# Altium schematic symbol library tsl_Schlib.SchLib: 381 symbols (part 2 of 3)
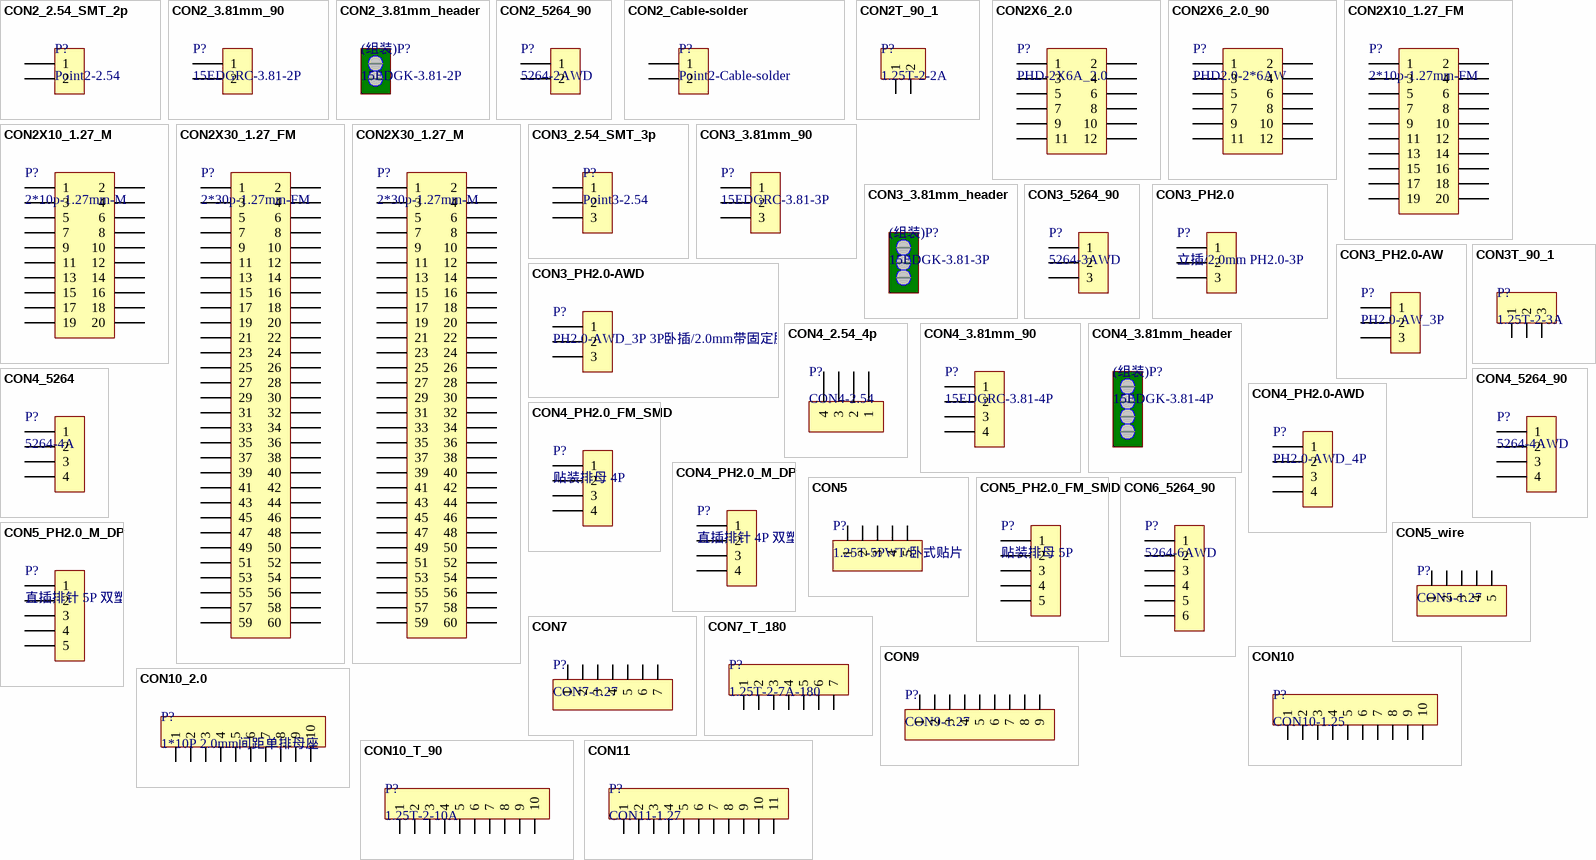
[diagram p11: symbols CON2_2.54_SMT_2p to CON11]

## CON5_wire
designator P?, comment CON5-1.27
线材; Part Number: RP02.08.000051; LatestRevisionDate: 09-Feb-2017; LatestRevisionNote: SCHlib build; Publisher: ChenYinaho; Manufacturer: *; Manufacturer Part Number: *; Value: CON5-1.27
footprint CON5-1.27-SMD
footprint PH_5PIN_1.5_90
pins: 1, 2, 3, 4, 5

## CON6_5264_90
designator P?, comment 5264-6AWD
5264弯针插座,间距2.5mm,6位; Part Number: NEW; LatestRevisionDate: 09-Feb-2017; LatestRevisionNote: SCHlib build; Publisher: ChenYinaho; Manufacturer: *; Manufacturer Part Number: *; Value: 5264-6AWD
footprint PH5264-6P_90
pins: 1, 2, 3, 4, 5, 6

## CON7
designator P?, comment CON7-1.27
直插插座; Part Number: RP02.07.000049; LatestRevisionDate: 09-Feb-2017; LatestRevisionNote: SCHlib build; Publisher: ChenYinaho; Manufacturer: *; Manufacturer Part Number: *; Value: CON7-1.27
footprint PH_7PIN_1.25_H (Footprint not found)
pins: 1, 2, 3, 4, 5, 6, 7

## CON7_T_180
designator P?, comment 1.25T-2-7A-180
立贴座 1.25/7p; Part Number: NEW; LatestRevisionDate: 09-Feb-2017; LatestRevisionNote: SCHlib build; Publisher: ChenYinaho; Manufacturer: *; Manufacturer Part Number: *; Value: 1.25T-2-7A-180
footprint PH_7PIN_1.25_T_180
pins: 1, 2, 3, 4, 5, 6, 7

## CON9
designator P?, comment CON9-1.27
LatestRevisionDate: 09-Feb-2017; LatestRevisionNote: SCHlib build; Publisher: ChenYinaho; Manufacturer: *; Manufacturer Part Number: *; Part Number: *; Value: CON9-1.27
footprint PH_9PIN_1.25_H (Footprint not found)
pins: 1, 2, 3, 4, 5, 6, 7, 8, 9

## CON10
designator P?, comment CON10-1.25
直插插座; Part Number: RP02.07.000116; LatestRevisionDate: 09-Feb-2017; LatestRevisionNote: SCHlib build; Publisher: ChenYinaho; Manufacturer: *; Manufacturer Part Number: *; Value: CON10-1.25
footprint PH_10PIN_1.25_H
pins: 1, 2, 3, 4, 5, 6, 7, 8, 9, 10

## CON10_2.0
designator P?, comment 1*10P 2.0mm间距单排母座
直插排针插座; Part Number: RP02.07.000118; LatestRevisionDate: 09-Feb-2017; LatestRevisionNote: SCHlib build; Publisher: ChenYinaho; Manufacturer: *; Manufacturer Part Number: *; Value: 1*10P 2.0mm间距单排母座
footprint 1*10p/2.0mm/RTL8711
pins: 1, 2, 3, 4, 5, 6, 7, 8, 9, 10

## CON10_T_90
designator P?, comment 1.25T-2-10A
卧贴座 1.25/10p; Part Number: NEW; LatestRevisionDate: 09-Feb-2017; LatestRevisionNote: SCHlib build; Publisher: ChenYinaho; Manufacturer: *; Manufacturer Part Number: *; Value: 1.25T-2-10A
footprint PH_10PIN_1.25_T_90 (Footprint not found)
pins: 1, 2, 3, 4, 5, 6, 7, 8, 9, 10

## CON11
designator P?, comment CON11-1.27
LatestRevisionDate: 09-Feb-2017; LatestRevisionNote: SCHlib build; Publisher: ChenYinaho; Manufacturer: *; Manufacturer Part Number: *; Part Number: *; Value: CON11-1.27
footprint PH_11PIN_1.25_H (Footprint not found)
pins: 1, 2, 3, 4, 5, 6, 7, 8, 9, 10, 11

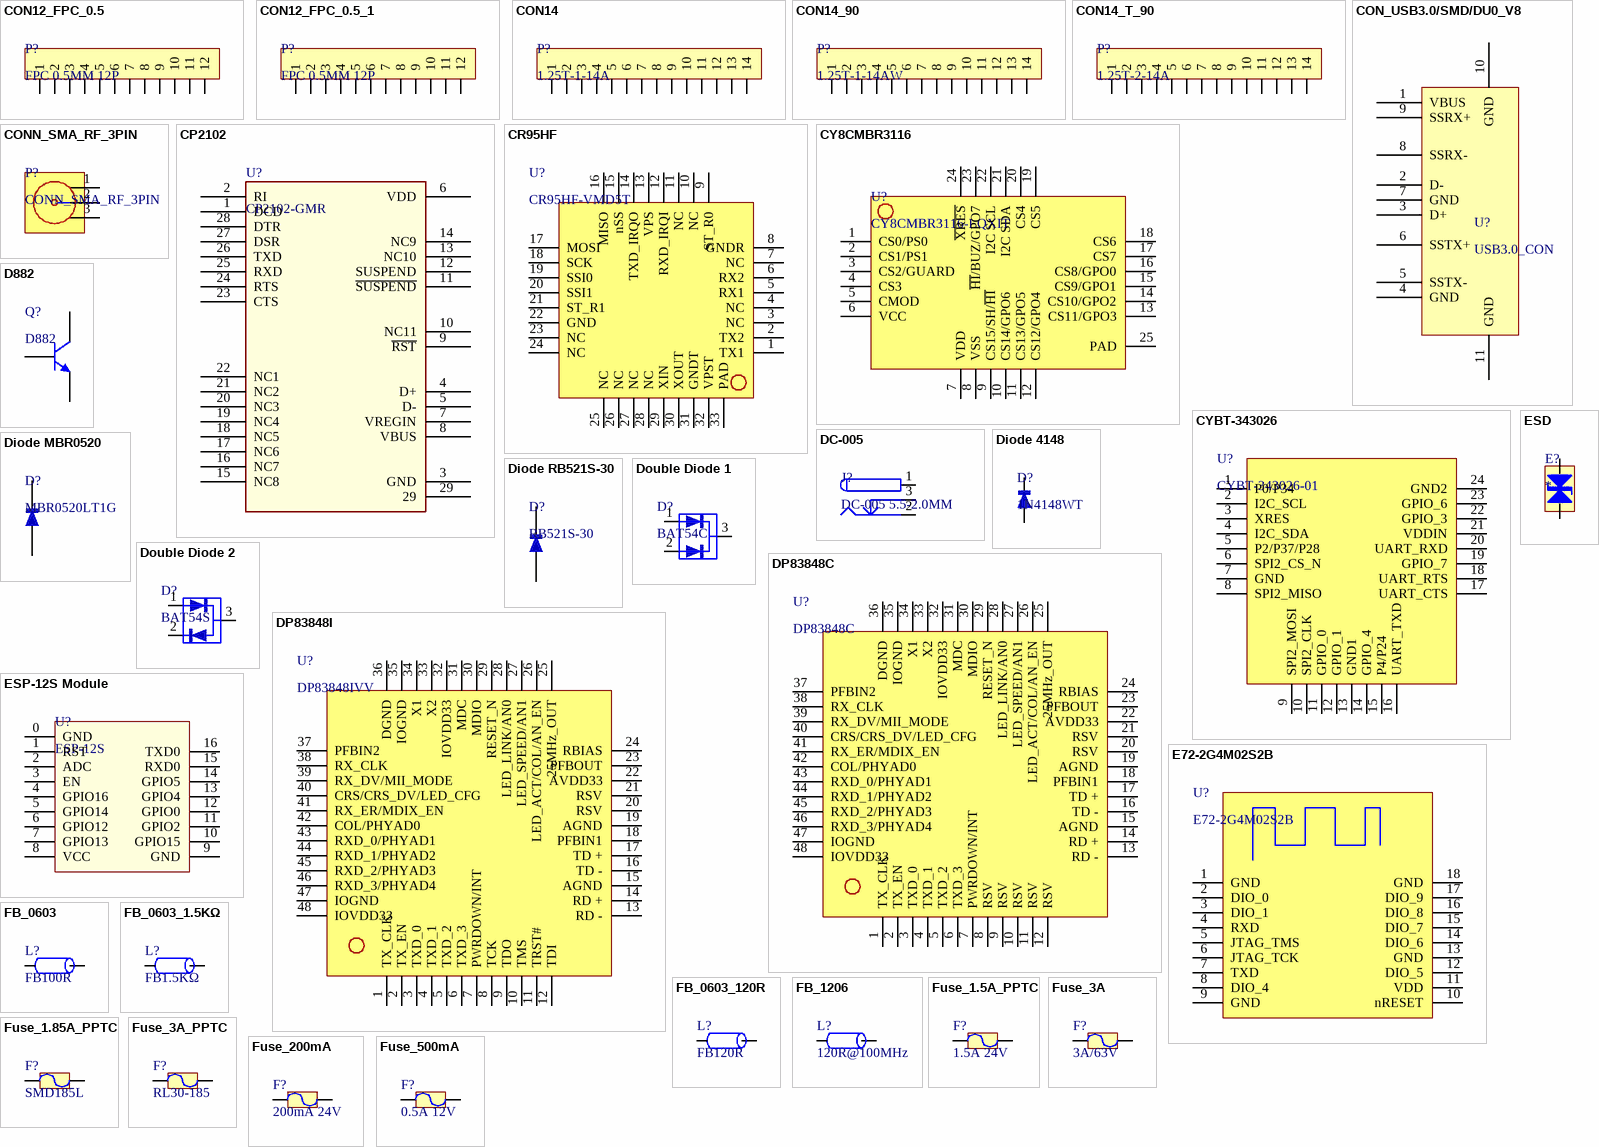
[diagram p4: symbols CON12_FPC_0.5 to Fuse_500mA]

## CON12_FPC_0.5
designator P?, comment FPC 0.5MM 12P
FPC连接器 0.5mm间距 12P H2.0mm 抽拉式 下接; Part Number: NEW; LatestRevisionDate: 09-Feb-2017; LatestRevisionNote: SCHlib build; Publisher: ChenYinaho; Manufacturer: *; Manufacturer Part Number: *; Value: FPC 0.5MM 12P
footprint FPC_0.5MM_12P (Footprint not found)
pins: 1, 2, 3, 4, 5, 6, 7, 8, 9, 10, 11, 12

## CON12_FPC_0.5_1
designator P?, comment FPC 0.5MM 12P
FPC连接器 0.5mm间距 12P H2.0mm 立贴式; Part Number: NEW; LatestRevisionDate: 09-Feb-2017; LatestRevisionNote: SCHlib build; Publisher: ChenYinaho; Manufacturer: *; Manufacturer Part Number: *; Value: FPC 0.5MM 12P
footprint FPC_0.5MM_12P_90 (Footprint not found)
pins: 1, 2, 3, 4, 5, 6, 7, 8, 9, 10, 11, 12

## CON14
designator P?, comment 1.25T-1-14A
直插插座 1.25/14p; Part Number: RP02.07.000142; LatestRevisionDate: 09-Feb-2017; LatestRevisionNote: SCHlib build; Publisher: ChenYinaho; Manufacturer: *; Manufacturer Part Number: *; Value: 1.25T-1-14A
footprint PH_14PIN_1.25_H (Footprint not found)
pins: 1, 2, 3, 4, 5, 6, 7, 8, 9, 10, 11, 12, 13, 14

## CON14_90
designator P?, comment 1.25T-1-14AW
直插90度弯座 1.25/14p; Part Number: RP02.07.000141; LatestRevisionDate: 09-Feb-2017; LatestRevisionNote: SCHlib build; Publisher: ChenYinaho; Manufacturer: *; Manufacturer Part Number: *; Value: 1.25T-1-14AW
footprint PH_14PIN_1.25_90
pins: 1, 2, 3, 4, 5, 6, 7, 8, 9, 10, 11, 12, 13, 14

## CON14_T_90
designator P?, comment 1.25T-2-14A
卧贴座 1.25/14p; Part Number: RP02.07.000145; LatestRevisionDate: 09-Feb-2017; LatestRevisionNote: SCHlib build; Publisher: ChenYinaho; Manufacturer: *; Manufacturer Part Number: *; Value: 1.25T-2-14A
footprint PH_14PIN_1.25_T_90 (Footprint not found)
pins: 1, 2, 3, 4, 5, 6, 7, 8, 9, 10, 11, 12, 13, 14

## CON_USB3.0/SMD/DU0_V8
designator U?, comment USB3.0_CON
USB3.0 CON; Part Number: NEW; LatestRevisionDate: 09-Feb-2017; LatestRevisionNote: SCHlib build; Publisher: Stone; PackageDescription: SMD; Value: USB3.0_CON
footprint TQFN-32_4x4x04P
pins: 1 VBUS, 2 D-, 3 D+, 4 GND, 5 SSTX-, 6 SSTX+, 7 GND, 8 SSRX-, 9 SSRX+, 10 GND, 11 GND

## CONN_SMA_RF_3PIN
designator P?
贴片天线座; Part Number: RP02.07.000078; LatestRevisionDate: 09-Feb-2017; LatestRevisionNote: SCHlib build; Publisher: ChenYinaho; Manufacturer: *; Manufacturer Part Number: *; Value: CONN_SMA_RF_3PIN
footprint PH_RF_2.5X2.5 (Footprint not found)
pins: 1, 2, 3

## CP2102
designator U?, comment CP2102-GMR
USB 桥接器; Manufacturer: SILICON LABS(芯科); Part Number: NEW; LatestRevisionDate: 09-Feb-2017; LatestRevisionNote: SCHlib build; Publisher: ChenYinaho; PackageDescription: QFN-28_5x5x05P; Manufacturer Part Number: CP2102-GMR; Value: CP2102-GMR
footprint QFN-28_5x5x05P (Footprint not found)
pins: 1 DCD, 2 RI, 3 GND, 4 D+, 5 D-, 6 VDD, 7 VREGIN, 8 VBUS, 9 ~{RST}, 10 NC11, 11 ~{SUSPEND}, 12 SUSPEND, 13 NC10, 14 NC9, 15 NC8, 16 NC7, 17 NC6, 18 NC5, 19 NC4, 20 NC3, 21 NC2, 22 NC1, 23 CTS, 24 RTS, 25 RXD, 26 TXD, 27 DSR, 28 DTR, 29

## CR95HF
designator U?, comment CR95HF-VMD5T
NFC芯片; Part Number: RP02.05.000041; LatestRevisionDate: 09-Feb-2017; LatestRevisionNote: SCHlib build; Publisher: ChenYinaho; Manufacturer: *; Manufacturer Part Number: CR95HF-VMD5T; Value: CR95HF-VMD5T
footprint QFN32 (Footprint not found)
pins: 1 TX1, 2 TX2, 3 NC, 4 NC, 5 RX1, 6 RX2, 7 NC, 8 GNDR, 9 ST_R0, 10 NC, 11 NC, 12 RXD_IRQI, 13 VPS, 14 TXD_IRQO, 15 nSS, 16 MISO, 17 MOSI, 18 SCK, 19 SSI0, 20 SSI1, 21 ST_R1, 22 GND, 23 NC, 24 NC, 25 NC, 26 NC, 27 NC, 28 NC, 29 XIN, 30 XOUT, 31 GNDT, 32 VPST, 33 PAD

## CY8CMBR3116
designator U?, comment CY8CMBR3116-LQXIT
16键触摸控制器IC; Manufacturer: CYPRESS; Part Number: NEW; LatestRevisionDate: 09-Feb-2017; LatestRevisionNote: SCHlib build; Publisher: ChenYinaho; Manufacturer Part Number: CY8CMBR3116-LQXIT; Value: CY8CMBR3116-LQXIT
footprint QFN24 (Footprint not found)
pins: 1 CS0/PS0, 2 CS1/PS1, 3 CS2/GUARD, 4 CS3, 5 CMOD, 6 VCC, 7 VDD, 8 VSS, 9 CS15/SH/~{HI}, 10 CS14/GPO6, 11 CS13/GPO5, 12 CS12/GPO4, 13 CS11/GPO3, 14 CS10/GPO2, 15 CS9/GPO1, 16 CS8/GPO0, 17 CS7, 18 CS6, 19 CS5, 20 CS4, 21 I2C SDA, 22 I2C SCL, 23 ~{HI}/BUZ/GPO7, 24 ~{XRES}, 25 PAD

## CYBT-343026
designator U?, comment CYBT-343026-01
蓝牙模块; Manufacturer: Cypress; Part Number: NEW; LatestRevisionDate: 09-Feb-2017; LatestRevisionNote: SCHlib build; Publisher: ChenYinaho; Manufacturer Part Number: CYBT-343026; Value: CYBT-343026-01
footprint BLE-QFN24-343026
pins: 1 P0/P34, 2 I2C_SCL, 3 XRES, 4 I2C_SDA, 5 P2/P37/P28, 6 SPI2_CS_N, 7 GND, 8 SPI2_MISO, 9 SPI2_MOSI, 10 SPI2_CLK, 11 GPIO_0, 12 GPIO_1, 13 GND1, 14 GPIO_4, 15 P4/P24, 16 UART_TXD, 17 UART_CTS, 18 UART_RTS, 19 GPIO_7, 20 UART_RXD, 21 VDDIN, 22 GPIO_3, 23 GPIO_6, 24 GND2

## D882
designator Q?
贴片三极管NPN; Manufacturer: CJ江苏长电; Part Number: NEW; LatestRevisionDate: 09-Feb-2017; LatestRevisionNote: SCHlib build; Publisher: ChenYinaho; PackageDescription: SOT-89-3L; Manufacturer Part Number: D882; Value: D882
footprint SOT-89
pins: 1 B, 2 C, 3 E

## DC-005
designator J?, comment DC-005 5.5-2.0MM
DC电源插座; Part Number: NEW; LatestRevisionDate: 09-Feb-2017; LatestRevisionNote: SCHlib build; Publisher: ChenYinaho; Manufacturer Part Number: DC-005 5.5-2.0MM; Manufacturer: *; Value: DC-005 5.5-2.0MM
footprint KLD-0202-1 (DC Power Jack, 2.5mm, KLD Series, PCB Mount)
pins: 1 (power), 2 (power), 3 (power)

## Diode 4148
designator D?, comment 1N4148WT
贴片二极管; Part Number: RP02.06.000021; LatestRevisionDate: 09-Feb-2017; LatestRevisionNote: SCHlib build; Publisher: ChenYinaho; Manufacturer Part Number: 1N4148WT; Manufacturer: *; Value: 1N4148WT
footprint SOD-523
pins: 1, 2

## Diode MBR0520
designator D?, comment MBR0520LT1G
贴片肖特基二极管; Manufacturer: ON; Part Number: RP02.06.000083; LatestRevisionDate: 09-Feb-2017; LatestRevisionNote: SCHlib build; Publisher: ChenYinaho; Manufacturer Part Number: MBR0520LT1G; Value: MBR0520LT1G
footprint SOD-123
pins: 1, 2

## Diode RB521S-30
designator D?, comment RB521S-30
贴片肖特基二极管; Part Number: RP02.06.000082; LatestRevisionDate: 09-Feb-2017; LatestRevisionNote: SCHlib build; Publisher: ChenYinaho; Manufacturer Part Number: RB521S-30; Manufacturer: *; Value: RB521S-30
footprint SOD-523
pins: 1, 2

## Double Diode 1
designator D?, comment BAT54C
贴片双二极管; Part Number: RP02.06.000036; LatestRevisionDate: 09-Feb-2017; LatestRevisionNote: SCHlib build; Publisher: ChenYinaho; Manufacturer: *; Manufacturer Part Number: BAT54C; Value: BAT54C
footprint SOT-23
pins: 1 A1, 2 K2, 3 K1

## Double Diode 2
designator D?, comment BAT54S
贴片双二极管; Part Number: RP02.06.000033; LatestRevisionDate: 09-Feb-2017; LatestRevisionNote: SCHlib build; Publisher: ChenYinaho; Manufacturer: *; Manufacturer Part Number: BAT54S; Value: BAT54S
footprint SOT-23
pins: 1 A1, 2 K2, 3 K1

## DP83848C
designator U?
以太网物理层收发器; Manufacturer: TI; Part Number: RP02.05.000087; LatestRevisionDate: 09-Feb-2017; LatestRevisionNote: SCHlib build; Publisher: ChenYinaho; Manufacturer Part Number: DP83848C; Value: DP83848C
footprint PQFP48 (Footprint not found)
pins: 1 TX_CLK, 2 TX_EN, 3 TXD_0, 4 TXD_1, 5 TXD_2, 6 TXD_3, 7 PWRDOWN/INT, 8 RSV, 9 RSV, 10 RSV, 11 RSV, 12 RSV, 13 RD -, 14 RD +, 15 AGND, 16 TD -, 17 TD +, 18 PFBIN1, 19 AGND, 20 RSV, 21 RSV, 22 AVDD33, 23 PFBOUT, 24 RBIAS, 25 25MHz_OUT, 26 LED_ACT/COL/AN_EN, 27 LED_SPEED/AN1, 28 LED_LINK/AN0, 29 RESET_N, 30 MDIO, 31 MDC, 32 IOVDD33, 33 X2, 34 X1, 35 IOGND, 36 DGND, 37 PFBIN2, 38 RX_CLK, 39 RX_DV/MII_MODE, 40 CRS/CRS_DV/LED_CFG, 41 RX_ER/MDIX_EN, 42 COL/PHYAD0, 43 RXD_0/PHYAD1, 44 RXD_1/PHYAD2, 45 RXD_2/PHYAD3, 46 RXD_3/PHYAD4, 47 IOGND, 48 IOVDD33

## DP83848I
designator U?, comment DP83848IVV
以太网物理层收发器; Manufacturer: TI; Part Number: NEW; LatestRevisionDate: 09-Feb-2017; LatestRevisionNote: SCHlib build; Publisher: ChenYinaho; Manufacturer Part Number: DP83848IVV; Value: DP83848IVV
footprint LQFP48
pins: 1 TX_CLK, 2 TX_EN, 3 TXD_0, 4 TXD_1, 5 TXD_2, 6 TXD_3, 7 PWRDOWN/INT, 8 TCK, 9 TDO, 10 TMS, 11 TRST#, 12 TDI, 13 RD -, 14 RD +, 15 AGND, 16 TD -, 17 TD +, 18 PFBIN1, 19 AGND, 20 RSV, 21 RSV, 22 AVDD33, 23 PFBOUT, 24 RBIAS, 25 25MHz_OUT, 26 LED_ACT/COL/AN_EN, 27 LED_SPEED/AN1, 28 LED_LINK/AN0, 29 RESET_N, 30 MDIO, 31 MDC, 32 IOVDD33, 33 X2, 34 X1, 35 IOGND, 36 DGND, 37 PFBIN2, 38 RX_CLK, 39 RX_DV/MII_MODE, 40 CRS/CRS_DV/LED_CFG, 41 RX_ER/MDIX_EN, 42 COL/PHYAD0, 43 RXD_0/PHYAD1, 44 RXD_1/PHYAD2, 45 RXD_2/PHYAD3, 46 RXD_3/PHYAD4, 47 IOGND, 48 IOVDD33

## E72-2G4M02S2B
designator U?
蓝牙模块; Manufacturer: 成都亿佰特; Part Number: NEW; LatestRevisionDate: 09-Feb-2017; LatestRevisionNote: SCHlib build; Publisher: ChenYinaho; Manufacturer Part Number: E72-2G4M02S2B; Value: E72-2G4M02S2B
footprint PE72(2G4M02S2B) (Footprint not found)
pins: 1 GND, 2 DIO_0, 3 DIO_1, 4 RXD, 5 JTAG_TMS, 6 JTAG_TCK, 7 TXD, 8 DIO_4, 9 GND, 10 nRESET, 11 VDD, 12 DIO_5, 13 GND, 14 DIO_6, 15 DIO_7, 16 DIO_8, 17 DIO_9, 18 GND

## ESD
designator E?
Manufacturer: TDK; LatestRevisionDate: 09-Feb-2017; LatestRevisionNote: SCHlib build; Publisher: ChenYinaho; Manufacturer Part Number: *; Value: *; Part Number: *
footprint R0603
pins: 1, 2

## ESP-12S Module
designator U?, comment ESP-12S
ESP-12S 802.11b/g/n WiFi模组; Manufacturer: AI-Thinker; Part Number: RP02.05.000165; LatestRevisionDate: 09-Feb-2017; LatestRevisionNote: SCHlib build; Publisher: ChenYinaho; Manufacturer Part Number: ESP-12S; Value: ESP-12S
footprint ESP-12S Module
pins: 0 GND, 1 RST, 2 ADC, 3 EN, 4 GPIO16, 5 GPIO14, 6 GPIO12, 7 GPIO13, 8 VCC, 9 GND, 10 GPIO15, 11 GPIO2, 12 GPIO0, 13 GPIO4, 14 GPIO5, 15 RXD0, 16 TXD0

## FB_0603
designator L?, comment FB100R
贴片磁珠; Manufacturer: TDK; Part Number: RP02.99.000036; LatestRevisionDate: 09-Feb-2017; LatestRevisionNote: SCHlib build; Publisher: ChenYinaho; Manufacturer Part Number: *; Value: FB100R
footprint L0603 (Footprint not found)
pins: 1, 2

## FB_0603_1.5KΩ
designator L?, comment FB1.5KΩ
贴片磁珠1.5KΩ ±25% @100MHz; Manufacturer: muRata(村田); Manufacturer Part Number: BLM18HE152SN1D; Part Number: NEW; LatestRevisionDate: 09-Feb-2017; LatestRevisionNote: SCHlib build; Publisher: ChenYinaho; Value: FB1.5KΩ
footprint L0603 (Footprint not found)
pins: 1, 2

## FB_0603_120R
designator L?, comment FB120R
贴片磁珠; Manufacturer: TDK; Part Number: RP02.99.000093; LatestRevisionDate: 09-Feb-2017; LatestRevisionNote: SCHlib build; Publisher: ChenYinaho; Manufacturer Part Number: *; Value: FB120R
footprint L0603 (Footprint not found)
pins: 1, 2

## FB_1206
designator L?, comment 120R@100MHz
贴片磁珠; Manufacturer: muRata(村田); Manufacturer Part Number: BLM31AG121SN1D; Part Number: RP02.99.000049; LatestRevisionDate: 09-Feb-2017; LatestRevisionNote: SCHlib build; Publisher: ChenYinaho; Value: 120R@100MHz
footprint L1206 (Footprint not found)
pins: 1, 2

## Fuse_1.5A_PPTC
designator F?, comment 1.5A 24V
贴片自恢复保险丝/1.5A; Manufacturer: RUILON(瑞隆源); Manufacturer Part Number: SMD1812P150TF/24; Part Number: RP02.13.000009; LatestRevisionDate: 09-Feb-2017; LatestRevisionNote: SCHlib build; Publisher: ChenYinaho; Value: 1.5A 24V
footprint R1812 (Footprint not found)
pins: 1, 2

## Fuse_1.85A_PPTC
designator F?, comment SMD185L
贴片自恢复型保险丝/1.85A; Manufacturer: 台湾陆海; Part Number: NEW; LatestRevisionDate: 09-Feb-2017; LatestRevisionNote: SCHlib build; Publisher: ChenYinaho; Manufacturer Part Number: *; Value: SMD185L
footprint R2920
pins: 1, 2

## Fuse_3A
designator F?, comment 3A/63V
贴片保险; Part Number: RP02.99.000035; LatestRevisionDate: 09-Feb-2017; LatestRevisionNote: SCHlib build; Publisher: ChenYinaho; Manufacturer: *; Manufacturer Part Number: *; Value: 3A/63V
footprint R1206 (Footprint not found)
pins: 1, 2

## Fuse_3A_PPTC
designator F?, comment RL30-185
直插自恢复型保险丝/1.85A 30V; Manufacturer: RUILON(瑞隆源); Part Number: NEW; LatestRevisionDate: 09-Feb-2017; LatestRevisionNote: SCHlib build; Publisher: ChenYinaho; Manufacturer Part Number: *; Value: RL30-185
footprint PPTC_5.1mm
pins: 1, 2

## Fuse_200mA
designator F?, comment 200mA 24V
贴片保险; Part Number: RP02.99.000068; LatestRevisionDate: 09-Feb-2017; LatestRevisionNote: SCHlib build; Publisher: ChenYinaho; Manufacturer: *; Manufacturer Part Number: *; Value: 200mA 24V
footprint R1206 (Footprint not found)
pins: 1, 2

## Fuse_500mA
designator F?, comment 0.5A 12V
自恢复保险; Part Number: NEW; LatestRevisionDate: 09-Feb-2017; LatestRevisionNote: SCHlib build; Publisher: ChenYinaho; Manufacturer: *; Manufacturer Part Number: *; Value: 0.5A 12V
footprint R0805
pins: 1, 2

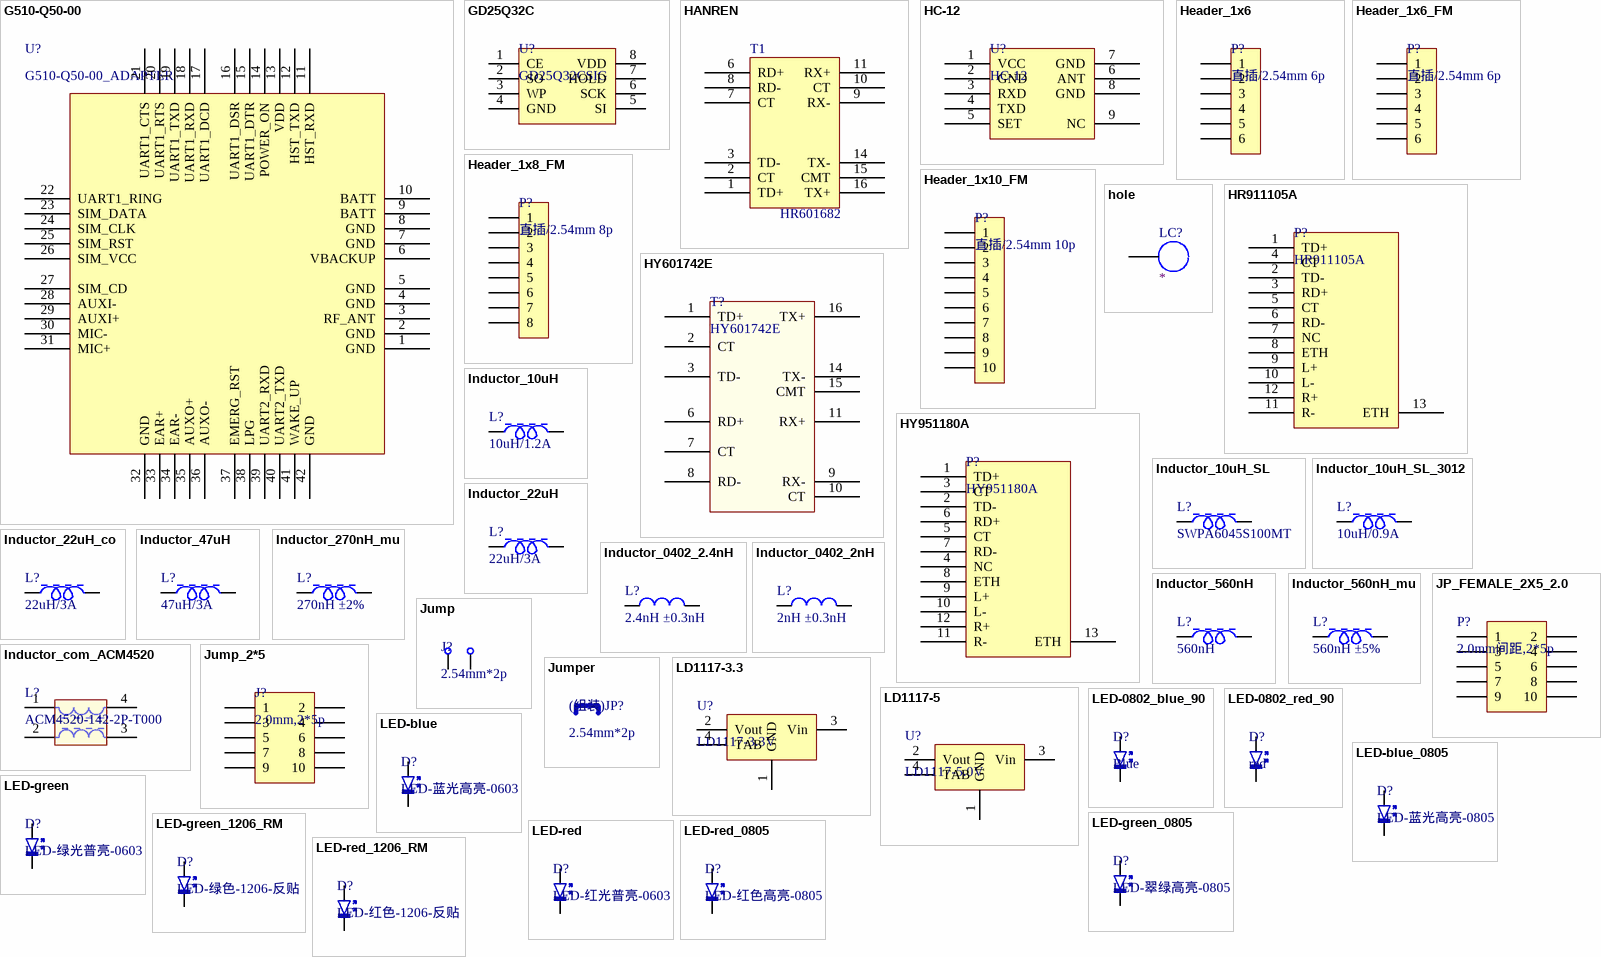
[diagram p5: symbols G510-Q50-00 to LED-red_1206_RM]

## G510-Q50-00
designator U?, comment G510-Q50-00_ADAPTER
贴片2G模块; Part Number: RP02.05.000105; LatestRevisionDate: 09-Feb-2017; LatestRevisionNote: SCHlib build; Publisher: ChenYinaho; Manufacturer: *; Manufacturer Part Number: G510-Q50-00_ADAPTER; Value: G510-Q50-00_ADAPTER
footprint G510-Q50-42-ADAPTER
pins: 1 GND, 2 GND, 3 RF_ANT, 4 GND, 5 GND, 6 VBACKUP, 7 GND, 8 GND, 9 BATT, 10 BATT, 11 HST_RXD, 12 HST_TXD, 13 VDD, 14 POWER_ON, 15 UART1_DTR, 16 UART1_DSR, 17 UART1_DCD, 18 UART1_RXD, 19 UART1_TXD, 20 UART1_RTS, 21 UART1_CTS, 22 UART1_RING, 23 SIM_DATA, 24 SIM_CLK, 25 SIM_RST, 26 SIM_VCC, 27 SIM_CD, 28 AUXI-, 29 AUXI+, 30 MIC-, 31 MIC+, 32 GND, 33 EAR+, 34 EAR-, 35 AUXO+, 36 AUXO-, 37 EMERG_RST, 38 LPG, 39 UART2_RXD, 40 UART2_TXD, 41 WAKE_UP, 42 GND

## GD25Q32C
designator U?, comment GD25Q32CSIG
Flash; Manufacturer: GigaDevice(兆易创新); Part Number: NEW; LatestRevisionDate: 09-Feb-2017; LatestRevisionNote: SCHlib build; Publisher: ChenYinaho; Manufacturer Part Number: GD25Q32CSIG; Value: GD25Q32CSIG
footprint SOP8_6/7.4X1.27
pins: 1 CE, 2 SO, 3 WP, 4 GND, 5 SI, 6 SCK, 7 HOLD, 8 VDD

## HANREN
designator T1, comment HR601682
footprint HR601682
pins: 1 TD+, 2 CT, 3 TD-, 6 RD+, 7 CT, 8 RD-, 9 RX-, 10 CT, 11 RX+, 14 TX-, 15 CMT, 16 TX+

## HC-12
designator U?
无线串口模块; Manufacturer: 广州汇承; Part Number: NEW; LatestRevisionDate: 09-Feb-2017; LatestRevisionNote: SCHlib build; Publisher: ChenYinaho; Manufacturer Part Number: HC-12; Value: HC-12
footprint LD1040 (Footprint not found)
footprint L0805 (Footprint not found)
footprint HC-11/12_SMT2
pins: 1 VCC, 2 GND, 3 RXD, 4 TXD, 5 SET, 6 ANT, 7 GND, 8 GND, 9 NC

## Header_1x6
designator P?, comment 直插/2.54mm 6p
排针,2.54mm,单排,直插直针,6pin; Part Number: NEW; LatestRevisionDate: 09-Feb-2017; LatestRevisionNote: SCHlib build; Publisher: ChenYinaho; Manufacturer: *; Manufacturer Part Number: *; Value: 直插/2.54mm 6p
footprint 1*6P (Footprint not found)
pins: 1, 2, 3, 4, 5, 6

## Header_1x6_FM
designator P?, comment 直插/2.54mm 6p
排母,2.54mm,单排,直插直座,6pin; Part Number: NEW; LatestRevisionDate: 09-Feb-2017; LatestRevisionNote: SCHlib build; Publisher: ChenYinaho; Manufacturer: *; Manufacturer Part Number: *; Value: 直插/2.54mm 6p
footprint 1*6P_FEMALE
pins: 1, 2, 3, 4, 5, 6

## Header_1x8_FM
designator P?, comment 直插/2.54mm 8p
排母,2.54mm,单排,直插直座,8pin; Part Number: NEW; LatestRevisionDate: 09-Feb-2017; LatestRevisionNote: SCHlib build; Publisher: ChenYinaho; Manufacturer: *; Manufacturer Part Number: *; Value: 直插/2.54mm 8p
footprint 1*8P_FEMALE (Footprint not found)
pins: 1, 2, 3, 4, 5, 6, 7, 8

## Header_1x10_FM
designator P?, comment 直插/2.54mm 10p
排母,2.54mm,单排,直插直座,10pin; Part Number: NEW; LatestRevisionDate: 09-Feb-2017; LatestRevisionNote: SCHlib build; Publisher: ChenYinaho; Manufacturer: *; Manufacturer Part Number: *; Value: 直插/2.54mm 10p
footprint 1*10P_FEMALE (Footprint not found)
pins: 1, 2, 3, 4, 5, 6, 7, 8, 9, 10

## hole
designator LC?
固定孔; Part Number: Delete in BOM; Value: *
footprint TEST-POINT
footprint HOLE
footprint TEST-POINT (Footprint not found)
footprint HOLE3x4
footprint LOC2 (Footprint not found)
pins: 1

## HR911105A
designator P?
RJ45带LED网络变压器; Manufacturer: HANRUN(汉仁); Part Number: NEW; LatestRevisionDate: 09-Feb-2017; LatestRevisionNote: SCHlib build; Publisher: ChenYinaho; Manufacturer Part Number: HR911105A; Value: HR911105A
footprint LD1040 (Footprint not found)
footprint L0805 (Footprint not found)
footprint HR911105A
pins: 1 TD+, 2 TD-, 3 RD+, 4 CT, 5 CT, 6 RD-, 7 NC, 8 ETH, 9 L+, 10 L-, 11 R-, 12 R+, 13 ETH

## HY601742E
designator T?
网络变压器单口表贴; Manufacturer: HANRUN(汉仁); Part Number: RP02.99.000090; LatestRevisionDate: 09-Feb-2017; LatestRevisionNote: SCHlib build; Publisher: ChenYinaho; Manufacturer Part Number: HY601742E; Value: HY601742E
footprint LD1040 (Footprint not found)
footprint L0805 (Footprint not found)
footprint HY601742 (Footprint not found)
pins: 1 TD+, 2 CT, 3 TD-, 6 RD+, 7 CT, 8 RD-, 9 RX-, 10 CT, 11 RX+, 14 TX-, 15 CMT, 16 TX+

## HY951180A
designator P?
RJ45带LED网络变压器竖直; Manufacturer: HANRUN(汉仁); Manufacturer Part Number: HR911105A; Part Number: NEW; LatestRevisionDate: 09-Feb-2017; LatestRevisionNote: SCHlib build; Publisher: ChenYinaho; Value: HY951180A
footprint LD1040 (Footprint not found)
footprint L0805 (Footprint not found)
footprint RJ45_HY951180A
pins: 1 TD+, 2 TD-, 3 CT, 4 NC, 5 CT, 6 RD+, 7 RD-, 8 ETH, 9 L+, 10 L-, 11 R-, 12 R+, 13 ETH

## Inductor_10uH
designator L?, comment 10uH/1.2A
贴片功率电感; Manufacturer Part Number: PS5D28-100MT; Part Number: RP02.09.000040; LatestRevisionDate: 09-Feb-2017; LatestRevisionNote: SCHlib build; Publisher: ChenYinaho; Manufacturer: *; Value: 10uH/1.2A
footprint LD1040 (Footprint not found)
footprint L0805 (Footprint not found)
footprint LD5728 (Footprint not found)
pins: 1, 2

## Inductor_10uH_SL
designator L?, comment SWPA6045S100MT
贴片屏蔽功率电感; Manufacturer: Sunlord; Part Number: RP02.09.000043; LatestRevisionDate: 09-Feb-2017; LatestRevisionNote: SCHlib build; Publisher: ChenYinaho; Manufacturer Part Number: SWPA6045S100MT; Value: SWPA6045S100MT
footprint L6045 (Footprint not found)
footprint L0805 (Footprint not found)
footprint CD5728 (Footprint not found)
pins: 1, 2

## Inductor_10uH_SL_3012
designator L?, comment 10uH/0.9A
贴片屏蔽功率电感; Manufacturer: Sunlord; Manufacturer Part Number: SWPA3012S100MT; Part Number: RP02.09.000044; LatestRevisionDate: 09-Feb-2017; LatestRevisionNote: SCHlib build; Publisher: ChenYinaho; Value: 10uH/0.9A
footprint L3012 (Footprint not found)
footprint L0805 (Footprint not found)
footprint CD5728 (Footprint not found)
pins: 1, 2

## Inductor_22uH
designator L?, comment 22uH/3A
贴片功率电感; Manufacturer Part Number: SMDRH104R -220N; Part Number: RP02.09.000039; LatestRevisionDate: 09-Feb-2017; LatestRevisionNote: SCHlib build; Publisher: ChenYinaho; Manufacturer: *; Value: 22uH/3A
footprint LD1040 (Footprint not found)
footprint L0805 (Footprint not found)
footprint CD5728 (Footprint not found)
pins: 1, 2

## Inductor_22uH_co
designator L?, comment 22uH/3A
贴片功率电感 10*10 罐装屏蔽; Manufacturer Part Number: MSS1048-223ML; Part Number: RP02.09.000041; LatestRevisionDate: 09-Feb-2017; LatestRevisionNote: SCHlib build; Publisher: ChenYinaho; Manufacturer: *; Value: 22uH/3A
footprint LD1040 (Footprint not found)
footprint L0805 (Footprint not found)
footprint CD5728 (Footprint not found)
pins: 1, 2

## Inductor_47uH
designator L?, comment 47uH/3A
贴片功率电感; Manufacturer Part Number: SMDRH104R -470N; Part Number: RP02.09.000037; LatestRevisionDate: 09-Feb-2017; LatestRevisionNote: SCHlib build; Publisher: ChenYinaho; Manufacturer: *; Value: 47uH/3A
footprint LD1040 (Footprint not found)
footprint L0805 (Footprint not found)
footprint CD5728 (Footprint not found)
pins: 1, 2

## Inductor_270nH_mu
designator L?, comment 270nH ±2%
贴片电感 线绕 0603 ±2% 260mA; Manufacturer: 村田; Manufacturer Part Number: LQW18ANR27G80D; Part Number: RP02.09.000045; LatestRevisionDate: 09-Feb-2017; LatestRevisionNote: SCHlib build; Publisher: ChenYinaho; Value: 270nH ±2%
footprint LD1040 (Footprint not found)
footprint L0603
footprint CD5728 (Footprint not found)
pins: 1, 2

## Inductor_0402_2.4nH
designator L?, comment 2.4nH ±0.3nH
贴片电感 多层 0402 ±0.3nH 850mA; Manufacturer: 村田; Manufacturer Part Number: LQG15HS2N4S02D; Part Number: NEW; LatestRevisionDate: 09-Feb-2017; LatestRevisionNote: SCHlib build; Publisher: ChenYinaho; Value: 2.4nH ±0.3nH
footprint LD1040 (Footprint not found)
footprint LC-0402_L
footprint CD5728 (Footprint not found)
pins: 1, 2

## Inductor_0402_2nH
designator L?, comment 2nH ±0.3nH
贴片电感 多层 0402 ±0.3nH 900mA; Manufacturer: 村田; Manufacturer Part Number: LQG15HS2N0S02D; Part Number: NEW; LatestRevisionDate: 09-Feb-2017; LatestRevisionNote: SCHlib build; Publisher: ChenYinaho; Value: 2nH ±0.3nH
footprint LD1040 (Footprint not found)
footprint LC-0402_L
footprint CD5728 (Footprint not found)
pins: 1, 2

## Inductor_560nH
designator L?, comment 560nH
贴片电感; Part Number: RP02.09.000031; LatestRevisionDate: 09-Feb-2017; LatestRevisionNote: SCHlib build; Publisher: ChenYinaho; Manufacturer: *; Manufacturer Part Number: *; Value: 560nH
footprint LD1040 (Footprint not found)
footprint L0805 (Footprint not found)
footprint CD5728 (Footprint not found)
pins: 1, 2

## Inductor_560nH_mu
designator L?, comment 560nH ±5%
贴片电感 线绕 0805 ±5%; Part Number: RP02.09.000042; LatestRevisionDate: 09-Feb-2017; LatestRevisionNote: SCHlib build; Publisher: ChenYinaho; Manufacturer: *; Manufacturer Part Number: *; Value: 560nH ±5%
footprint LD1040 (Footprint not found)
footprint L0805 (Footprint not found)
footprint CD5728 (Footprint not found)
pins: 1, 2

## Inductor_com_ACM4520
designator L?, comment ACM4520-142-2P-T000
共模滤波器; Manufacturer: TDK; Part Number: NEW; LatestRevisionDate: 09-Feb-2017; LatestRevisionNote: SCHlib build; Publisher: ChenYinaho; Manufacturer Part Number: ACM4520-142-2P-T000; Value: ACM4520-142-2P-T000
footprint LD1040 (Footprint not found)
footprint L0805 (Footprint not found)
footprint CD4520 (Footprint not found)
pins: 1, 2, 3, 4

## JP_FEMALE_2X5_2.0
designator P?, comment 2.0mm间距,2*5p
贴片排母2.0mm; Part Number: NEW; LatestRevisionDate: 09-Feb-2017; LatestRevisionNote: SCHlib build; Publisher: ChenYinaho; Manufacturer: *; Manufacturer Part Number: *; Value: 2.0mm间距,2*5p
footprint JP_FEMALE_2X5_2.0 (Footprint not found)
pins: 1, 2, 3, 4, 5, 6, 7, 8, 9, 10

## Jump
designator J?, comment 2.54mm*2p
直插排针; Part Number: RP02.07.000135; LatestRevisionDate: 09-Feb-2017; LatestRevisionNote: SCHlib build; Publisher: ChenYinaho; Manufacturer: *; Manufacturer Part Number: *; Value: 2.54mm*2p
footprint SIP2 (Footprint not found)
pins: 1, 2

## Jump_2*5
designator J?, comment 2.0mm,2*5p
直插排针; Part Number: NEW; LatestRevisionDate: 09-Feb-2017; LatestRevisionNote: SCHlib build; Publisher: ChenYinaho; Manufacturer: *; Manufacturer Part Number: *; Value: 2.0mm,2*5p
footprint HDR_JP2X5_2.0 (Footprint not found)
pins: 1, 2, 3 hidden, 3, 4 hidden, 4, 5, 6, 7, 8, 9, 10

## Jumper
designator (组装)JP?, comment 2.54mm*2p
跳线帽; Part Number: RP02.07.000010; LatestRevisionDate: 09-Feb-2017; LatestRevisionNote: SCHlib build; Publisher: ChenYinaho; Manufacturer: *; Manufacturer Part Number: *; Value: 2.54mm*2p
pins: 3 hidden, 4 hidden

## LD1117-3.3
designator U?, comment LD1117-3.3V
LDO IC; Part Number: RP02.05.000023; LatestRevisionDate: 09-Feb-2017; LatestRevisionNote: SCHlib build; Publisher: ChenYinaho; PackageDescription: SOT223; Manufacturer: *; Manufacturer Part Number: LD1117-3.3V; Value: LD1117-3.3V
footprint SOT-223 (Footprint not found)
pins: 1 GND, 2 Vout, 3 Vin, 4 TAB

## LD1117-5
designator U?, comment LD1117-5.0V
LDO IC; Part Number: NEW; LatestRevisionDate: 09-Feb-2017; LatestRevisionNote: SCHlib build; Publisher: ChenYinaho; PackageDescription: SOT223; Manufacturer: *; Manufacturer Part Number: LD1117-5.0V; Value: LD1117-5.0V
footprint SOT-223 (Footprint not found)
pins: 1 GND, 2 Vout, 3 Vin, 4 TAB

## LED-0802_blue_90
designator D?, comment Blue
0802侧发光LED蓝色; Part Number: NEW; LatestRevisionDate: 09-Feb-2017; LatestRevisionNote: SCHlib build; Publisher: ChenYinaho; Manufacturer: *; Manufacturer Part Number: *; Value: Blue
footprint LED1206 (Footprint not found)
footprint LED0802
pins: 1, 2

## LED-0802_red_90
designator D?, comment red
0802侧发光LED红色; Part Number: NEW; LatestRevisionDate: 09-Feb-2017; LatestRevisionNote: SCHlib build; Publisher: ChenYinaho; Manufacturer: *; Manufacturer Part Number: *; Value: red
footprint LED1206 (Footprint not found)
footprint LED0802
pins: 1, 2

## LED-blue
designator D?, comment LED-蓝光高亮-0603
贴片LED; Part Number: RP02.06.000027; LatestRevisionDate: 09-Feb-2017; LatestRevisionNote: SCHlib build; Publisher: ChenYinaho; Manufacturer: *; Manufacturer Part Number: *; Value: LED-蓝光高亮-0603
footprint LED1206 (Footprint not found)
footprint SOD-523
pins: 1, 2

## LED-blue_0805
designator D?, comment LED-蓝光高亮-0805
贴片LED; Part Number: NEW; LatestRevisionDate: 09-Feb-2017; LatestRevisionNote: SCHlib build; Publisher: ChenYinaho; Manufacturer: *; Manufacturer Part Number: *; Value: LED-蓝光高亮-0805
footprint LED1206 (Footprint not found)
footprint LED_0805
pins: 1, 2

## LED-green
designator D?, comment LED-绿光普亮-0603
贴片LED; Part Number: RP02.06.000025; LatestRevisionDate: 09-Feb-2017; LatestRevisionNote: SCHlib build; Publisher: ChenYinaho; Manufacturer: *; Manufacturer Part Number: *; Value: LED-绿光普亮-0603
footprint LED1206 (Footprint not found)
footprint SOD-523
pins: 1, 2

## LED-green_0805
designator D?, comment LED-翠绿高亮-0805
贴片LED; Part Number: NEW; LatestRevisionDate: 09-Feb-2017; LatestRevisionNote: SCHlib build; Publisher: ChenYinaho; Manufacturer: *; Manufacturer Part Number: *; Value: LED-翠绿高亮-0805
footprint LED1206 (Footprint not found)
footprint LED_0805
pins: 1, 2

## LED-green_1206_RM
designator D?, comment LED-绿色-1206-反贴
贴片LED 反贴; Part Number: NEW; LatestRevisionDate: 09-Feb-2017; LatestRevisionNote: SCHlib build; Publisher: ChenYinaho; Manufacturer: *; Manufacturer Part Number: *; Value: LED-绿色-1206-反贴
footprint LED1206_RM (Footprint not found)
footprint LED_0805
pins: 1, 2

## LED-red
designator D?, comment LED-红光普亮-0603
贴片LED; Part Number: RP02.06.000024; LatestRevisionDate: 09-Feb-2017; LatestRevisionNote: SCHlib build; Publisher: ChenYinaho; Manufacturer: *; Manufacturer Part Number: *; Value: LED-红光普亮-0603
footprint LED1206 (Footprint not found)
footprint SOD-523
pins: 1, 2

## LED-red_0805
designator D?, comment LED-红色高亮-0805
贴片LED; Part Number: NEW; LatestRevisionDate: 09-Feb-2017; LatestRevisionNote: SCHlib build; Publisher: ChenYinaho; Manufacturer: *; Manufacturer Part Number: *; Value: LED-红色高亮-0805
footprint LED1206 (Footprint not found)
footprint LED_0805
pins: 1, 2

## LED-red_1206_RM
designator D?, comment LED-红色-1206-反贴
贴片LED 反贴; Part Number: NEW; LatestRevisionDate: 09-Feb-2017; LatestRevisionNote: SCHlib build; Publisher: ChenYinaho; Manufacturer: *; Manufacturer Part Number: *; Value: LED-红色-1206-反贴
footprint LED1206_RM (Footprint not found)
footprint LED_0805
pins: 1, 2

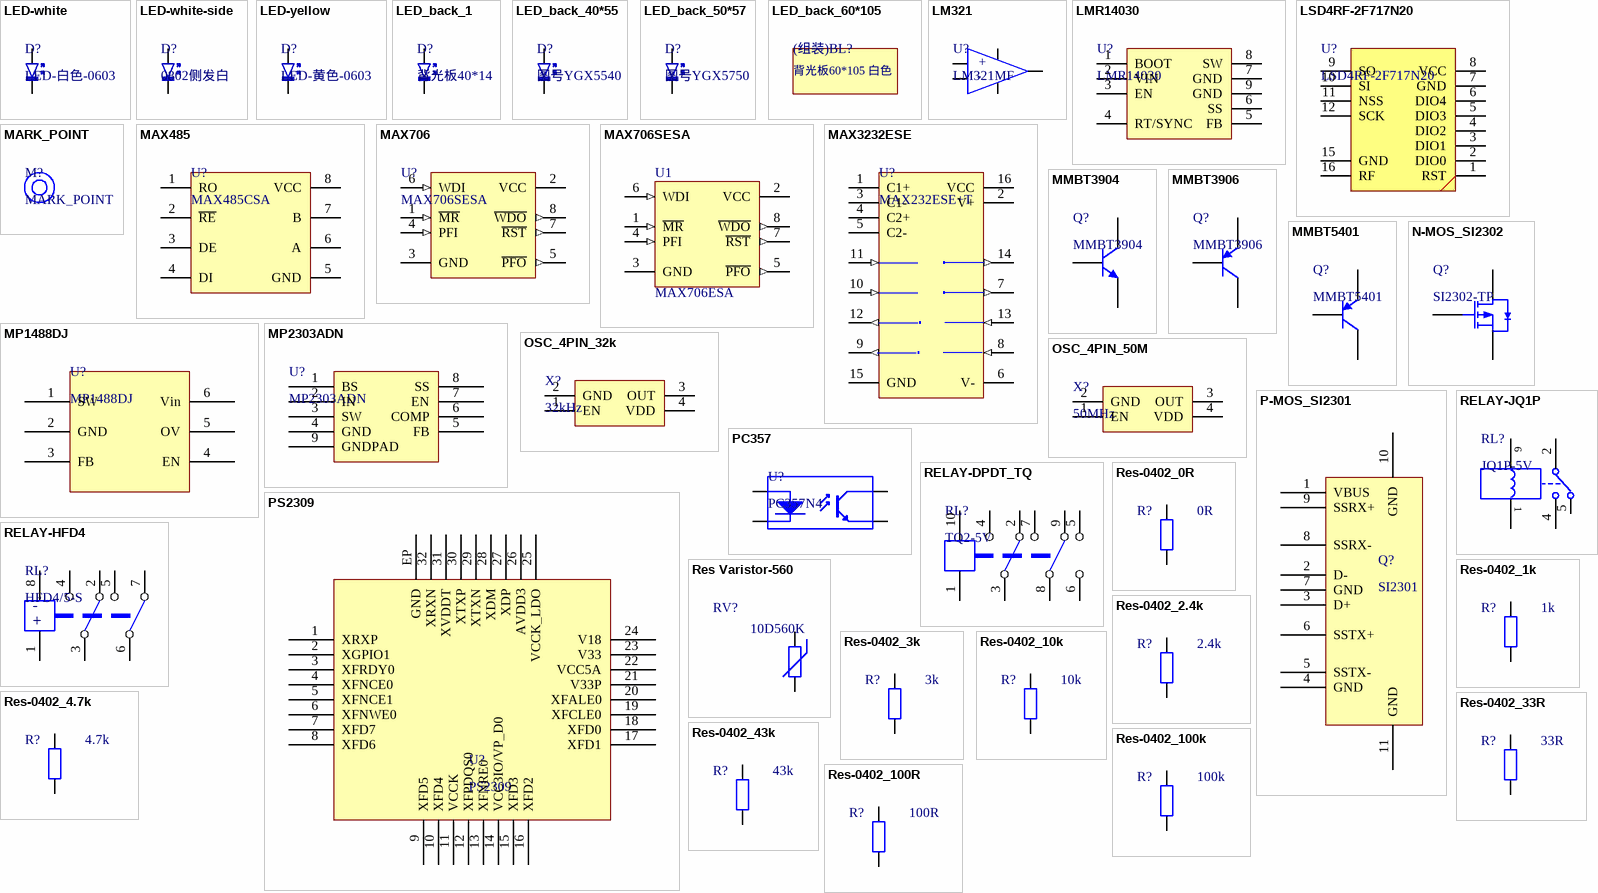
[diagram p6: symbols LED-white to Res-0402_100R]

## LED-white
designator D?, comment LED-白色-0603
贴片LED 白光; Manufacturer: 光宝; Manufacturer Part Number: LTW-C193TS5; Part Number: RP02.06.000084; LatestRevisionDate: 09-Feb-2017; LatestRevisionNote: SCHlib build; Publisher: ChenYinaho; Value: LED-白色-0603
footprint LED1206 (Footprint not found)
footprint SOD-523
pins: 1, 2

## LED-white-side
designator D?, comment 0802侧发白
贴片LED; Part Number: RP02.06.000067; Value: LED-白光侧发光-0802; LatestRevisionDate: 09-Feb-2017; LatestRevisionNote: SCHlib build; Publisher: ChenYinaho; Manufacturer: *; Manufacturer Part Number: *
footprint LED1206 (Footprint not found)
footprint LED0802
pins: 1, 2

## LED-yellow
designator D?, comment LED-黄色-0603
贴片LED; Part Number: RP02.06.000047; LatestRevisionDate: 09-Feb-2017; LatestRevisionNote: SCHlib build; Publisher: ChenYinaho; Manufacturer: *; Manufacturer Part Number: *; Value: LED-黄色-0603
footprint LED1206 (Footprint not found)
footprint SOD-523
pins: 1, 2

## LED_back_1
designator D?, comment 背光板40*14
LatestRevisionDate: 09-Feb-2017; LatestRevisionNote: SCHlib build; Publisher: ChenYinaho; Manufacturer: *; Manufacturer Part Number: *; Value: 背光板40*14; Part Number: *
footprint LED1206 (Footprint not found)
footprint SMA
pins: 1, 2

## LED_back_40*55
designator D?, comment 图号YGX5540
背光板40*55*1.3 蓝光; Part Number: RP02.99.000078; LatestRevisionDate: 09-Feb-2017; LatestRevisionNote: SCHlib build; Publisher: ChenYinaho; Manufacturer: *; Manufacturer Part Number: *; Value: 图号YGX5540
footprint LED1206 (Footprint not found)
footprint SMA
pins: 1, 2

## LED_back_50*57
designator D?, comment 图号YGX5750
背光板50*57*1.3 蓝光; Part Number: RP02.99.000079; LatestRevisionDate: 09-Feb-2017; LatestRevisionNote: SCHlib build; Publisher: ChenYinaho; Manufacturer: *; Manufacturer Part Number: *; Value: 图号YGX5750
footprint LED1206 (Footprint not found)
footprint SMA
pins: 1, 2

## LED_back_60*105
designator (组装)BL?
背光板60*105*1.3 白光 A端1.25T-1-2Y,B端焊接点胶,线长70mm; Part Number: NEW; LatestRevisionDate: 09-Feb-2017; LatestRevisionNote: SCHlib build; Publisher: ChenYinaho; Manufacturer: *; Manufacturer Part Number: *
text: 背光板60*105 白色

## LM321
designator U?, comment LM321MF
单运放IC; Manufacturer: TI; Manufacturer Part Number: LM321MFX/NOPB; Part Number: RP02.05.000089; LatestRevisionDate: 09-Feb-2017; LatestRevisionNote: SCHlib build; Publisher: ChenYinaho; Value: LM321MF
footprint SOT23-5
pins: 1 +, 2 G, 3 -, 4 OUT, 5 VCC

## LMR14030
designator U?
DC-DC IC; Manufacturer: TI; Part Number: RP02.05.000111; LatestRevisionDate: 09-Feb-2017; LatestRevisionNote: SCHlib build; Publisher: ChenYinaho; Manufacturer Part Number: LMR14030; Value: LMR14030
footprint SOP8_6.0X1.27_1
pins: 1 BOOT, 2 VIN, 3 EN, 4 RT/SYNC, 5 FB, 6 SS, 7 GND, 8 SW, 9 GND

## LSD4RF-2F717N20
designator U?
LoRa模块-利尔达; Part Number: RP02.05.000109; LatestRevisionDate: 09-Feb-2017; LatestRevisionNote: SCHlib build; Publisher: ChenYinaho; Manufacturer: *; Manufacturer Part Number: LSD4RF-2F717N20; Value: LSD4RF-2F717N20
footprint 2F717N20
pins: 1 RST, 2 DIO0, 3 DIO1, 4 DIO2, 5 DIO3, 6 DIO4, 7 GND, 8 VCC, 9 SO, 10 SI, 11 NSS, 12 SCK, 15 GND, 16 RF

## MARK_POINT
designator M?
定位mark点; Part Number: Delete IN BOM; LatestRevisionDate: 09-Feb-2017; LatestRevisionNote: SCHlib build; Publisher: ChenYinaho; Value: MARK_POINT
footprint MARK_POINT
pins: 1 hidden

## MAX485
designator U?, comment MAX485CSA
485IC; Part Number: RP02.05.000027; LatestRevisionDate: 09-Feb-2017; LatestRevisionNote: SCHlib build; Publisher: ChenYinaho; Manufacturer: *; Manufacturer Part Number: MAX485CSA; Value: MAX485CSA
footprint SOP8_6.0X1.27
pins: 1 RO, 2 ~{RE}, 3 DE, 4 DI, 5 GND, 6 A, 7 B, 8 VCC

## MAX706
designator U?, comment MAX706SESA
看门狗IC; Part Number: NEW; LatestRevisionDate: 09-Feb-2017; LatestRevisionNote: SCHlib build; Publisher: ChenYinaho; Manufacturer: *; Manufacturer Part Number: MAX706SESA; Value: MAX706SESA
footprint SOP8_6.0X1.27
pins: 1 ~{MR} (in), 2 VCC (power), 3 GND (power), 4 PFI (in), 5 ~{PFO} (out), 6 WDI (in), 7 ~{RST} (out), 8 ~{WDO} (out)

## MAX706SESA
designator U1, comment MAX706ESA
+3V Voltage Monitoring, Low-Cost, 礟 Supervisory Circuit; Published: 16-Jan-2001; LatestRevisionDate: 13-Apr-2006; LatestRevisionNote: IPC-7351 Footprint Added.; DatasheetVersion: Sep-1995; PackageReference: NSO8; Publisher: Altium Limited; PackageDescription: 8-Pin Small Outline Integrated Circuit 1.27 mm Pitch; Code_JEDEC: MS-012-AA; Code_IPC: SOIC127P600-8; ComponentLink1Description: Manufacturer Link; ComponentLink1URL: http://www.maxim-ic.com/; ComponentLink2Description: Datasheet; ComponentLink2URL: http://pdfserv.maxim-ic.com/en/ds/MAX706P-MAX708T.pdf
footprint NSO8_N (SOIC, 8-Leads, Body 4.9x3.9mm, Pitch 1.27mm, IPC Medium Density)
footprint NSO8_L (SOIC, 8-Leads, Body 4.9x3.9mm, Pitch 1.27mm, IPC High Density)
footprint NSO8_M (SOIC, 8-Leads, Body 4.9x3.9mm, Pitch 1.27mm, IPC Low Density)
3D model NSO8 (8-Pin Small Outline Integrated Circuit 1.27 mm Pitch)
pins: 1 ~{MR} (in), 2 VCC (power), 3 GND (power), 4 PFI (in), 5 ~{PFO} (out), 6 WDI (in), 7 ~{RST} (out), 8 ~{WDO} (out)

## MAX3232ESE
designator U?, comment MAX232ESE+T
RS232芯片; Manufacturer: MAXIM(美信); Part Number: NEW; LatestRevisionDate: 09-Feb-2017; LatestRevisionNote: SCHlib build; Publisher: ChenYinaho; PackageDescription: SOIC-16_150mil; Manufacturer Part Number: MAX232ESE+T; Value: MAX232ESE+T
footprint NSO16_M
pins: 1 C1+, 2 V+ (power), 3 C1-, 4 C2+, 5 C2-, 6 V- (power), 7 T2OUT (out), 8 R2IN (in), 9 R2OUT (out), 10 T2IN (in), 11 T1IN (in), 12 R1OUT (out), 13 R1IN (in), 14 T1OUT (out), 15 GND (power), 16 VCC (power)

## MMBT3904
designator Q?
贴片三极管NPN; Part Number: RP02.06.000040; LatestRevisionDate: 09-Feb-2017; LatestRevisionNote: SCHlib build; Publisher: ChenYinaho; PackageDescription: SOT23; Manufacturer: *; Manufacturer Part Number: MMBT3904; Value: MMBT3904
footprint SOT-23
pins: 1 B, 2 E, 3 C

## MMBT3906
designator Q?
贴片三极管PNP; Part Number: RP02.06.000043; LatestRevisionDate: 09-Feb-2017; LatestRevisionNote: SCHlib build; Publisher: ChenYinaho; PackageDescription: SOT23; Manufacturer: *; Manufacturer Part Number: MMBT3906; Value: MMBT3906
footprint SOT-23
pins: 1 B, 2 E, 3 C

## MMBT5401
designator Q?
贴片三极管PNP; Manufacturer: CJ江苏长电; Part Number: NEW; LatestRevisionDate: 09-Feb-2017; LatestRevisionNote: SCHlib build; Publisher: ChenYinaho; PackageDescription: SOT23; Manufacturer Part Number: MMBT5401; Value: MMBT5401
footprint SOT-23
pins: 1 B, 2 E, 3 C

## MP1488DJ
designator U?
LED驱动器IC; Manufacturer: MPS; Part Number: RP02.05.000157; LatestRevisionDate: 09-Feb-2017; LatestRevisionNote: SCHlib build; Publisher: ChenYinaho; PackageDescription: SOT23-6; Manufacturer Part Number: MP1488DJ; Value: MP1488DJ
footprint SOT23-6 (SOT23, 5-Leads, Body 2.9x1.6mm, Pitch 0.95mm, Lead Span 2.8mm, IPC Low Density)
pins: 1 SW, 2 GND, 3 FB, 4 EN, 5 OV, 6 Vin

## MP2303ADN
designator U?
DC-DC芯片; Part Number: RP02.16.000002; LatestRevisionDate: 09-Feb-2017; LatestRevisionNote: SCHlib build; Publisher: ChenYinaho; PackageDescription: SOP-8; Manufacturer: *; Manufacturer Part Number: MP2303ADN; Value: MP2303ADN
footprint SOP8_6.0X1.27_1
pins: 1 BS, 2 IN, 3 SW, 4 GND, 5 FB, 6 COMP, 7 EN, 8 SS, 9 GNDPAD

## N-MOS_SI2302
designator Q?, comment SI2302-TP
贴片N-MOSFET; Part Number: NEW; LatestRevisionDate: 09-Feb-2017; LatestRevisionNote: SCHlib build; Publisher: ChenYinaho; PackageDescription: SMD; Manufacturer: *; Manufacturer Part Number: SI2302-TP; Value: SI2302-TP
footprint sot-23
pins: 1 G, 2 S, 3 D

## OSC_4PIN_32k
designator X?, comment 32kHz
32kHz/有源晶振; LatestRevisionDate: 09-Feb-2017; LatestRevisionNote: SCHlib build; Publisher: ChenYinaho; PackageDescription: 3225; Manufacturer: *; Manufacturer Part Number: *; Value: 32kHz; Part Number: *
footprint XTAL-3225-SMT
pins: 1 EN, 2 GND, 3 OUT, 4 VDD

## OSC_4PIN_50M
designator X?, comment 50MHz
50MHz/有源晶振; LatestRevisionDate: 09-Feb-2017; LatestRevisionNote: SCHlib build; Publisher: ChenYinaho; PackageDescription: 3225; Manufacturer: *; Manufacturer Part Number: *; Value: 50MHz; Part Number: *
footprint XTAL-6035-SMT (Footprint not found)
pins: 1 EN, 2 GND, 3 OUT, 4 VDD

## P-MOS_SI2301
designator Q?, comment SI2301
贴片P-MOSFET; Part Number: NEW; LatestRevisionDate: 09-Feb-2017; LatestRevisionNote: SCHlib build; Publisher: ChenYinaho; PackageDescription: SMD; Manufacturer: *; Manufacturer Part Number: SI2301; Value: SI2301
footprint sot-23
pins: 1 VBUS, 2 D-, 3 D+, 4 GND, 5 SSTX-, 6 SSTX+, 7 GND, 8 SSRX-, 9 SSRX+, 10 GND, 11 GND

## PC357
designator U?, comment PC357N4
贴片光耦; Manufacturer: SHARP; Part Number: NEW; LatestRevisionDate: 09-Feb-2017; LatestRevisionNote: SCHlib build; Publisher: ChenYinaho; PackageDescription: SMD; Manufacturer Part Number: PC357N4; Value: PC357N4
footprint SOP-4_P2.54
pins: 1 A "Anode", 2 K "Cathode", 3 E "Emitter", 4 C "Collector"

## PS2309
designator U?
USB3.0 U盘主控; Manufacturer: phison; Manufacturer Part Number: NULL; Part Number: NEW; LatestRevisionDate: 09-Feb-2017; LatestRevisionNote: SCHlib build; Publisher: Stone; PackageDescription: SMD; Value: PS2309
footprint TQFN-32_4x4x04P
pins: 1 XRXP, 2 XGPIO1, 3 XFRDY0, 4 XFNCE0, 5 XFNCE1, 6 XFNWE0, 7 XFD7, 8 XFD6, 9 XFD5, 10 XFD4, 11 VCCK, 12 XFPDQS0, 13 XFNRE0, 14 VCC3IO/VP_D0, 15 XFD3, 16 XFD2, 17 XFD1, 18 XFD0, 19 XFCLE0, 20 XFALE0, 21 V33P, 22 VCC5A, 23 V33, 24 V18, 25 VCCK_LDO, 26 AVDD3, 27 XDP, 28 XDM, 29 XTXN, 30 XTXP, 31 XVDDT, 32 XRXN, EP GND

## RELAY-DPDT_TQ
designator RL?, comment TQ2-5V
TQ2继电器; Manufacturer: panasonic; Part Number: RP02.10.000007; LatestRevisionDate: 09-Feb-2017; LatestRevisionNote: SCHlib build; Publisher: ChenYinaho; Manufacturer Part Number: TQ2-5V; Value: TQ2-5V
footprint TQ2 (Footprint not found)
pins: 1, 2, 3, 4, 5, 6, 7, 8, 9, 10

## RELAY-HFD4
designator RL?, comment HFD4/5-S
HFD4继电器; Manufacturer: HF; Part Number: RP02.10.000012; LatestRevisionDate: 09-Feb-2017; LatestRevisionNote: SCHlib build; Publisher: ChenYinaho; Manufacturer Part Number: HFD4/5-S; Value: HFD4/5-S
footprint HFD4
pins: 1, 2, 3, 4, 5, 6, 7, 8
text: -; +

## RELAY-JQ1P
designator RL?, comment JQ1P-5V
JQ1P继电器; Manufacturer: panasonic; Part Number: NEW; LatestRevisionDate: 09-Feb-2017; LatestRevisionNote: SCHlib build; Publisher: ChenYinaho; Manufacturer Part Number: JQ1P-5V; Value: JQ1P-5V
footprint Relay-TQ1P
pins: 1, 2, 4, 5, 6

## Res Varistor-560
designator RV?, comment 10D560K
直插压敏电阻,560K; Part Number: NEW; LatestRevisionDate: 09-Feb-2017; LatestRevisionNote: SCHlib build; Publisher: ChenYinaho; PackageDescription: *; Manufacturer: *; Manufacturer Part Number: 10D560K; Value: 10D560K
footprint CAPRD7.5-14x4.5A (Capacitor, Ceramic, Thru-Hole, Disc; Body 14 x 4.5 mm (LxW max) Pin Spacing 7.5 mm (typ))
pins: 1, 2

## Res-0402_0R
designator R?, comment 0R
表贴电阻,0402,±1%,1/16W; Part Number: NEW; LatestRevisionDate: 09-Feb-2017; LatestRevisionNote: SCHlib build; Publisher: ChenYinaho; PackageDescription: 0402R; Manufacturer: *; Manufacturer Part Number: *; Value: 0R
footprint 0402_R
pins: 1, 2

## Res-0402_1k
designator R?, comment 1k
表贴电阻,0402,±1%,1/16W; Part Number: RP02.03.000161; LatestRevisionDate: 09-Feb-2017; LatestRevisionNote: SCHlib build; Publisher: ChenYinaho; PackageDescription: 0402R; Manufacturer: *; Manufacturer Part Number: *; Value: 1k
footprint 0402_R
pins: 1, 2

## Res-0402_2.4k
designator R?, comment 2.4k
表贴电阻,0402,±1%,1/16W; Part Number: NEW; LatestRevisionDate: 09-Feb-2017; LatestRevisionNote: SCHlib build; Publisher: ChenYinaho; PackageDescription: 0402R; Manufacturer: *; Manufacturer Part Number: *; Value: 2.4k
footprint 0402_R
pins: 1, 2

## Res-0402_3k
designator R?, comment 3k
表贴电阻,0402,±1%,1/16W; Part Number: RP02.03.000165; LatestRevisionDate: 09-Feb-2017; LatestRevisionNote: SCHlib build; Publisher: ChenYinaho; PackageDescription: 0402R; Manufacturer: *; Manufacturer Part Number: *; Value: 3k
footprint 0402_R
pins: 1, 2

## Res-0402_4.7k
designator R?, comment 4.7k
表贴电阻,0402,±1%,1/16W; Part Number: NEW; LatestRevisionDate: 09-Feb-2017; LatestRevisionNote: SCHlib build; Publisher: ChenYinaho; PackageDescription: 0402R; Manufacturer: *; Manufacturer Part Number: *; Value: 4.7k
footprint 0402_R
pins: 1, 2

## Res-0402_10k
designator R?, comment 10k
表贴电阻,0402,±1%,1/16W; Part Number: RP02.03.000162; LatestRevisionDate: 09-Feb-2017; LatestRevisionNote: SCHlib build; Publisher: ChenYinaho; PackageDescription: 0402R; Manufacturer: *; Manufacturer Part Number: *; Value: 10k
footprint 0402_R
pins: 1, 2

## Res-0402_33R
designator R?, comment 33R
表贴电阻,0402,±1%,1/16W; Part Number: RP02.03.000160; LatestRevisionDate: 09-Feb-2017; LatestRevisionNote: SCHlib build; Publisher: ChenYinaho; PackageDescription: 0402R; Manufacturer: *; Manufacturer Part Number: *; Value: 33R
footprint 0402_R
pins: 1, 2

## Res-0402_43k
designator R?, comment 43k
表贴电阻,0402,±1%,1/16W; Part Number: RP02.03.000166; LatestRevisionDate: 09-Feb-2017; LatestRevisionNote: SCHlib build; Publisher: ChenYinaho; PackageDescription: 0402R; Manufacturer: *; Manufacturer Part Number: *; Value: 43k
footprint 0402_R
pins: 1, 2

## Res-0402_100k
designator R?, comment 100k
表贴电阻,0402,±1%,1/16W; Part Number: NEW; LatestRevisionDate: 09-Feb-2017; LatestRevisionNote: SCHlib build; Publisher: ChenYinaho; PackageDescription: 0402R; Manufacturer: *; Manufacturer Part Number: *; Value: 100k
footprint 0402_R
pins: 1, 2

## Res-0402_100R
designator R?, comment 100R
表贴电阻,0402,±1%,1/16W; Part Number: RP02.03.000163; LatestRevisionDate: 09-Feb-2017; LatestRevisionNote: SCHlib build; Publisher: ChenYinaho; PackageDescription: 0402R; Manufacturer: *; Manufacturer Part Number: *; Value: 100R
footprint 0402_R
pins: 1, 2

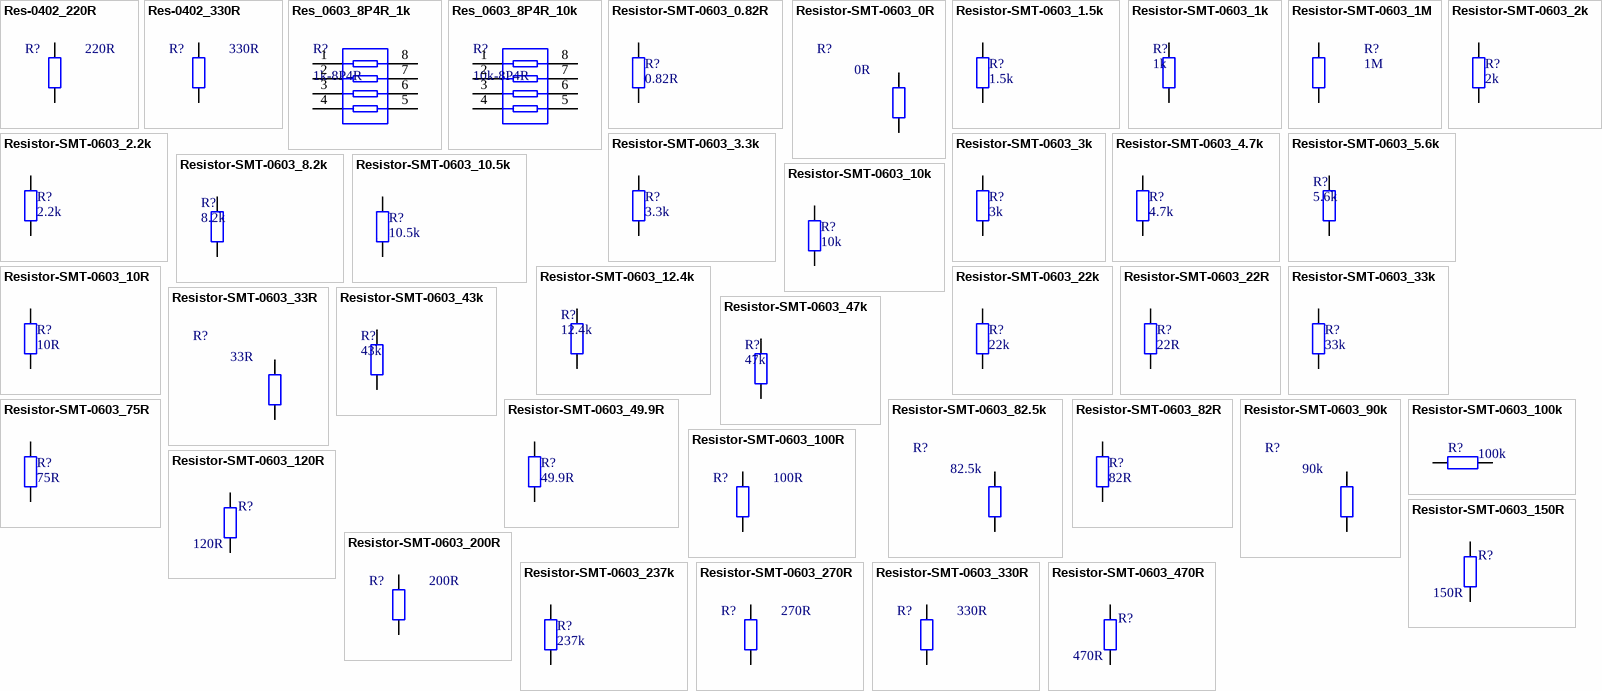
[diagram p7: symbols Res-0402_220R to Resistor-SMT-0603_470R]

## Res-0402_220R
designator R?, comment 220R
表贴电阻,0402,±1%,1/16W; Part Number: RP02.03.000167; LatestRevisionDate: 09-Feb-2017; LatestRevisionNote: SCHlib build; Publisher: ChenYinaho; PackageDescription: 0402R; Manufacturer: *; Manufacturer Part Number: *; Value: 220R
footprint 0402_R
pins: 1, 2

## Res-0402_330R
designator R?, comment 330R
表贴电阻,0402,±1%,1/16W; Part Number: RP02.03.000164; LatestRevisionDate: 09-Feb-2017; LatestRevisionNote: SCHlib build; Publisher: ChenYinaho; PackageDescription: 0402R; Manufacturer: *; Manufacturer Part Number: *; Value: 330R
footprint 0402_R
pins: 1, 2

## Res_0603_8P4R_1k
designator R?, comment 1k-8P4R
排阻,0603; Manufacturer: YAGO; Part Number: RP02.03.000084; LatestRevisionDate: 09-Feb-2017; LatestRevisionNote: SCHlib build; Publisher: ChenYinaho; PackageDescription: 0603; Manufacturer Part Number: *; Value: 1k-8P4R
footprint R4D03 (Footprint not found)
pins: 1, 2, 3, 4, 5, 6, 7, 8

## Res_0603_8P4R_10k
designator R?, comment 10k-8P4R
排阻,0603; Manufacturer: YAGO; Part Number: NEW; LatestRevisionDate: 09-Feb-2017; LatestRevisionNote: SCHlib build; Publisher: ChenYinaho; PackageDescription: 0603; Manufacturer Part Number: *; Value: 10k-8P4R
footprint R4D03 (Footprint not found)
pins: 1, 2, 3, 4, 5, 6, 7, 8

## Resistor-SMT-0603_0.82R
designator R?, comment 0.82R
表贴电阻,0603,±1%,1/10W; Manufacturer: YAGO; Part Number: RP02.03.000168; LatestRevisionDate: 09-Feb-2017; LatestRevisionNote: SCHlib build; Publisher: ChenYinaho; PackageDescription: 0603R; Manufacturer Part Number: *; Value: 0.82R
footprint R0603
pins: 1, 2

## Resistor-SMT-0603_0R
designator R?, comment 0R
表贴电阻,0603,±5%,1/10W; Part Number: RP02.03.000055; LatestRevisionDate: 09-Feb-2017; LatestRevisionNote: SCHlib build; Publisher: ChenYinaho; PackageDescription: 0603R; Manufacturer: *; Manufacturer Part Number: *; Value: 0R
footprint R0603
pins: 1, 2

## Resistor-SMT-0603_1.5k
designator R?, comment 1.5k
表贴电阻,0603,±5%,1/10W; Manufacturer: YAGO; Part Number: RP02.03.000041; LatestRevisionDate: 09-Feb-2017; LatestRevisionNote: SCHlib build; Publisher: ChenYinaho; PackageDescription: 0603R; Manufacturer Part Number: *; Value: 1.5k
footprint R0603
pins: 1, 2

## Resistor-SMT-0603_1k
designator R?, comment 1k
表贴电阻,0603,±5%,1/10W; Manufacturer: YAGO; Part Number: RP02.03.000048; LatestRevisionDate: 09-Feb-2017; LatestRevisionNote: SCHlib build; Publisher: ChenYinaho; PackageDescription: 0603R; Manufacturer Part Number: *; Value: 1k
footprint R0603
pins: 1, 2

## Resistor-SMT-0603_1M
designator R?, comment 1M
表贴电阻,0603,±5%,1/10W; Manufacturer: YAGO; Part Number: RP02.03.000044; LatestRevisionDate: 09-Feb-2017; LatestRevisionNote: SCHlib build; Publisher: ChenYinaho; PackageDescription: 0603R; Manufacturer Part Number: *; Value: 1M
footprint R0603
pins: 1, 2

## Resistor-SMT-0603_2.2k
designator R?, comment 2.2k
表贴电阻,0603,±5%,1/10W; Manufacturer: YAGO; Part Number: RP02.03.000042; LatestRevisionDate: 09-Feb-2017; LatestRevisionNote: SCHlib build; Publisher: ChenYinaho; PackageDescription: 0603R; Manufacturer Part Number: *; Value: 2.2k
footprint R0603
pins: 1, 2

## Resistor-SMT-0603_2k
designator R?, comment 2k
表贴电阻,0603,±1%,1/10W; Manufacturer: YAGO; Part Number: RP02.03.000103; LatestRevisionDate: 09-Feb-2017; LatestRevisionNote: SCHlib build; Publisher: ChenYinaho; PackageDescription: 0603R; Manufacturer Part Number: *; Value: 2k
footprint R0603
pins: 1, 2

## Resistor-SMT-0603_3.3k
designator R?, comment 3.3k
表贴电阻,0603,±5%,1/10W; Manufacturer: YAGO; Part Number: RP02.03.000063; LatestRevisionDate: 09-Feb-2017; LatestRevisionNote: SCHlib build; Publisher: ChenYinaho; PackageDescription: 0603R; Manufacturer Part Number: *; Value: 3.3k
footprint R0603
pins: 1, 2

## Resistor-SMT-0603_3k
designator R?, comment 3k
表贴电阻,0603,±5%,1/10W; Manufacturer: YAGO; Part Number: RP02.03.000096; LatestRevisionDate: 09-Feb-2017; LatestRevisionNote: SCHlib build; Publisher: ChenYinaho; PackageDescription: 0603R; Manufacturer Part Number: *; Value: 3k
footprint R0603
pins: 1, 2

## Resistor-SMT-0603_4.7k
designator R?, comment 4.7k
表贴电阻,0603,±5%,1/10W; Manufacturer: YAGO; Part Number: RP02.03.000043; LatestRevisionDate: 09-Feb-2017; LatestRevisionNote: SCHlib build; Publisher: ChenYinaho; PackageDescription: 0603R; Manufacturer Part Number: *; Value: 4.7k
footprint R0603
pins: 1, 2

## Resistor-SMT-0603_5.6k
designator R?, comment 5.6k
表贴电阻,0603,±1%,1/10W; Manufacturer: YAGO; Part Number: NEW; LatestRevisionDate: 09-Feb-2017; LatestRevisionNote: SCHlib build; Publisher: ChenYinaho; PackageDescription: 0603R; Manufacturer Part Number: *; Value: 5.6k
footprint R0603
pins: 1, 2

## Resistor-SMT-0603_8.2k
designator R?, comment 8.2k
表贴电阻,0603,±1%,1/10W; Manufacturer: YAGO; Part Number: RP02.03.000107; LatestRevisionDate: 09-Feb-2017; LatestRevisionNote: SCHlib build; Publisher: ChenYinaho; PackageDescription: 0603R; Manufacturer Part Number: *; Value: 8.2k
footprint R0603
pins: 1, 2

## Resistor-SMT-0603_10.5k
designator R?, comment 10.5k
表贴电阻,0603,±1%,1/10W; Manufacturer: YAGO; Part Number: RP02.03.000099; LatestRevisionDate: 09-Feb-2017; LatestRevisionNote: SCHlib build; Publisher: ChenYinaho; PackageDescription: 0603R; Manufacturer Part Number: *; Value: 10.5k
footprint R0603
pins: 1, 2

## Resistor-SMT-0603_10k
designator R?, comment 10k
表贴电阻,0603,±5%,1/10W; Manufacturer: YAGO; Part Number: RP02.03.000047; LatestRevisionDate: 09-Feb-2017; LatestRevisionNote: SCHlib build; Publisher: ChenYinaho; PackageDescription: 0603R; Manufacturer Part Number: *; Value: 10k
footprint R0603
pins: 1, 2

## Resistor-SMT-0603_10R
designator R?, comment 10R
表贴电阻,0603,±5%,1/10W; Manufacturer: YAGO; Part Number: RP02.03.000155; LatestRevisionDate: 09-Feb-2017; LatestRevisionNote: SCHlib build; Publisher: ChenYinaho; PackageDescription: 0603R; Manufacturer Part Number: *; Value: 10R
footprint R0603
pins: 1, 2

## Resistor-SMT-0603_12.4k
designator R?, comment 12.4k
表贴电阻,0603,±1%,1/10W; Manufacturer: YAGO; Part Number: RP02.03.000156; LatestRevisionDate: 09-Feb-2017; LatestRevisionNote: SCHlib build; Publisher: ChenYinaho; PackageDescription: 0603R; Manufacturer Part Number: *; Value: 12.4k
footprint R0603
pins: 1, 2

## Resistor-SMT-0603_22k
designator R?, comment 22k
表贴电阻,0603,±5%,1/10W; Manufacturer: YAGO; Part Number: NEW; LatestRevisionDate: 09-Feb-2017; LatestRevisionNote: SCHlib build; Publisher: ChenYinaho; PackageDescription: 0603R; Manufacturer Part Number: *; Value: 22k
footprint R0603
pins: 1, 2

## Resistor-SMT-0603_22R
designator R?, comment 22R
表贴电阻,0603,±5%,1/10W; Manufacturer: YAGO; Part Number: RP02.03.000057; LatestRevisionDate: 09-Feb-2017; LatestRevisionNote: SCHlib build; Publisher: ChenYinaho; PackageDescription: 0603R; Manufacturer Part Number: *; Value: 22R
footprint R0603
pins: 1, 2

## Resistor-SMT-0603_33k
designator R?, comment 33k
表贴电阻,0603,±5%,1/10W; Manufacturer: YAGO; Part Number: RP02.03.000152; LatestRevisionDate: 09-Feb-2017; LatestRevisionNote: SCHlib build; Publisher: ChenYinaho; PackageDescription: 0603R; Manufacturer Part Number: *; Value: 33k
footprint R0603
pins: 1, 2